# EAGLE library part NANO_PI_NEO_CORE (library AUX, NanoPiNeoCore)
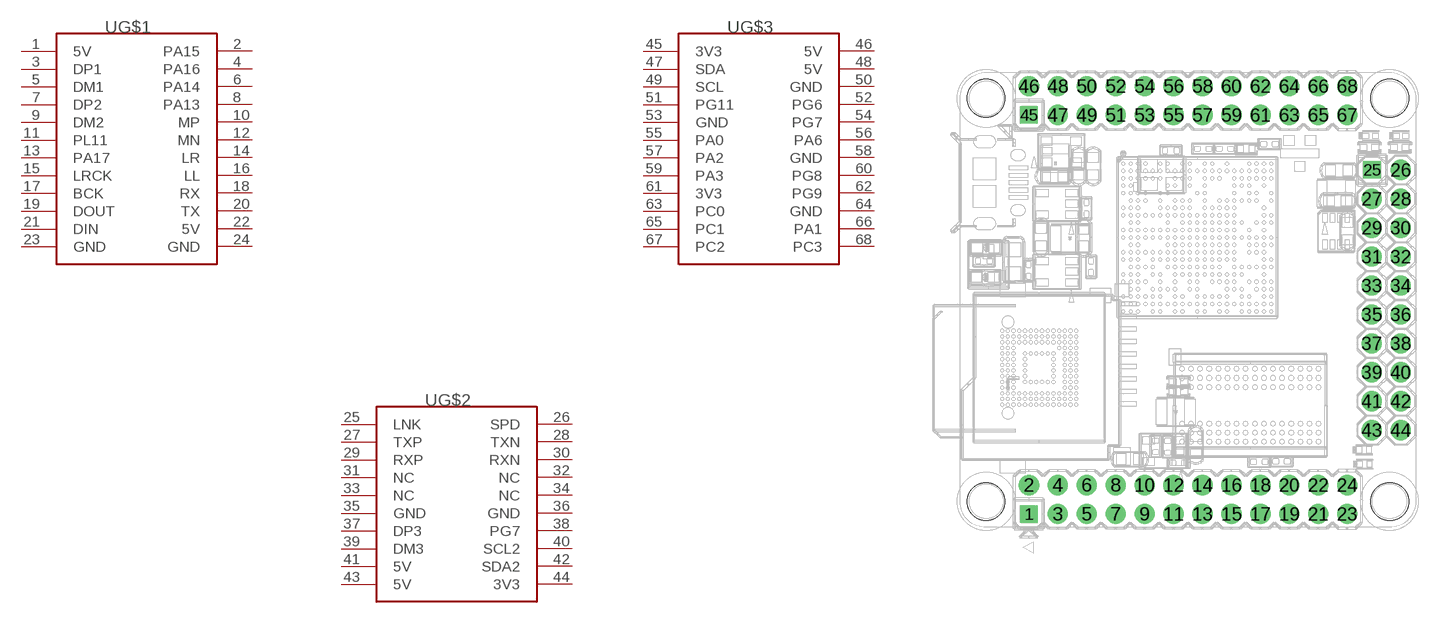
[diagram p0: symbol with the pads of NANO_PI_NEO_CORE; footprint NANO_PI_NEO_CORE]

Designator prefix U; gates G$1=NANOPINEOCORE-1 G$2=NANOPINEOCORE-2 G$3=NANOPINEOCORE-3

## NANO_PI_NEO_CORE  [NANO_PI_NEO_CORE]
1  G$1:5V
2  G$1:PA15
3  G$1:DP1
4  G$1:PA16
5  G$1:DM1
6  G$1:PA14
7  G$1:DP2
8  G$1:PA13
9  G$1:DM2
10  G$1:MP
11  G$1:PL11
12  G$1:MN
13  G$1:PA17
14  G$1:LR
15  G$1:LRCK
16  G$1:LL
17  G$1:BCK
18  G$1:RX
19  G$1:DOUT
20  G$1:TX
21  G$1:DIN
22  G$1:5V
23  G$1:GND
24  G$1:GND
25  G$2:LNK
26  G$2:SPD
27  G$2:TXP
28  G$2:TXN
29  G$2:RXP
30  G$2:RXN
31  G$2:NC
32  G$2:NC
33  G$2:NC
34  G$2:NC
35  G$2:GND
36  G$2:GND
37  G$2:DP3
38  G$2:PG7
39  G$2:DM3
40  G$2:SCL2
41  G$2:5V
42  G$2:SDA2
43  G$2:5V
44  G$2:3V3
45  G$3:3V3
46  G$3:5V
47  G$3:SDA
48  G$3:5V
49  G$3:SCL
50  G$3:GND
51  G$3:PG11
52  G$3:PG6
53  G$3:GND
54  G$3:PG7
55  G$3:PA0
56  G$3:PA6
57  G$3:PA2
58  G$3:GND
59  G$3:PA3
60  G$3:PG8
61  G$3:3V3
62  G$3:PG9
63  G$3:PC0
64  G$3:GND
65  G$3:PC1
66  G$3:PA1
67  G$3:PC2
68  G$3:PC3

## Footprint NANO_PI_NEO_CORE (pad centres in mm)
drill 1.016 square: 1 0,0; 25 30.124,30.226; 45 0,35.052
drill 1.016 pad 1.778: 2 0,2.54; 3 2.54,0; 4 2.54,2.54; 5 5.08,0; 6 5.08,2.54; 7 7.62,0; 8 7.62,2.54; 9 10.16,0; 10 10.16,2.54; 11 12.7,0; 12 12.7,2.54; 13 15.24,0; 14 15.24,2.54; 15 17.78,0; 16 17.78,2.54; 17 20.32,0; 18 20.32,2.54; 19 22.86,0; 20 22.86,2.54; 21 25.4,0; 22 25.4,2.54; 23 27.94,0; 24 27.94,2.54; 26 32.639,30.226; 27 30.099,27.686; 28 32.639,27.686; 29 30.099,25.146; 30 32.639,25.146; 31 30.099,22.606; 32 32.639,22.606; 33 30.099,20.066; 34 32.639,20.066; 35 30.099,17.526; 36 32.639,17.526; 37 30.099,14.986; 38 32.639,14.986; 39 30.099,12.446; 40 32.639,12.446; 41 30.099,9.906; 42 32.639,9.906; 43 30.099,7.366; 44 32.639,7.366; 46 0,37.592; 47 2.54,35.052; 48 2.54,37.592; 49 5.08,35.052; 50 5.08,37.592; 51 7.62,35.052; 52 7.62,37.592; 53 10.16,35.052; 54 10.16,37.592; 55 12.7,35.052; 56 12.7,37.592; 57 15.24,35.052; 58 15.24,37.592; 59 17.78,35.052; 60 17.78,37.592; 61 20.32,35.052; 62 20.32,37.592; 63 22.86,35.052; 64 22.86,37.592; 65 25.4,35.052; 66 25.4,37.592; 67 27.94,35.052; 68 27.94,37.592
hole 3.302 at -3.759,1.092
hole 3.302 at 31.674,1.092
hole 3.302 at 31.674,36.525
hole 3.302 at -3.759,36.525